# EAGLE library part F62-23-0300 (library relay)
RELAY Single Throw, 3 Pole, Finder
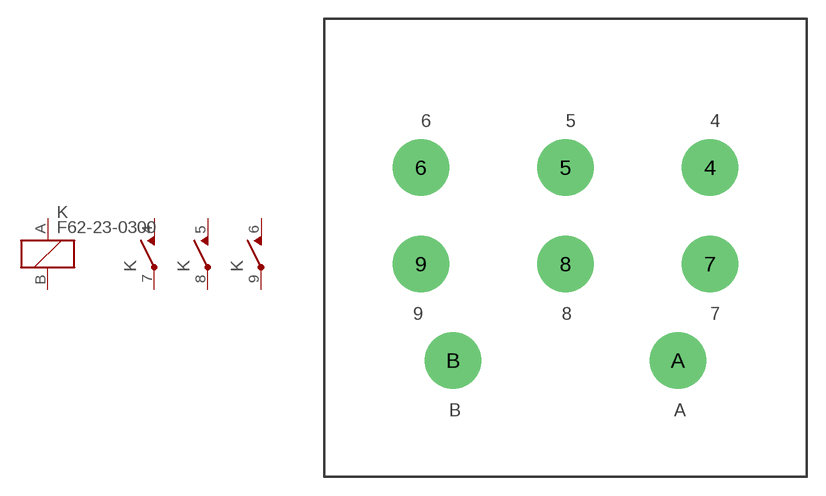
[diagram p50: symbol with the pads of F62-23-0300; footprint F62-23-0300]

Designator prefix K; gates K=K P1=S P2=S P3=S

## F62-23-0300  [F62-23-0300]
4  P1:NO  pas
5  P2:NO  pas
6  P3:NO  pas
7  P1:COM  pas
8  P2:COM  pas
9  P3:COM  pas
A  K:1  pas
B  K:2  pas

## Footprint F62-23-0300 (pad centres in mm)
Finder 62.23-0300
drill 2.184 pad 4.445: 4 11.43,6.35; 5 0,6.35; 6 -11.43,6.35; 7 11.43,-1.27; 8 0,-1.27; 9 -11.43,-1.27; A 8.89,-8.89; B -8.89,-8.89